# Altium schematic symbol library U_AUIPS7111S.SchLib: 1 symbol
Pins are listed as number, name and electrical type; pins without a type are passive.

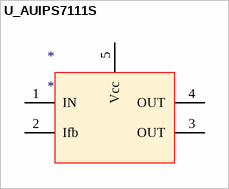
[diagram p0: symbol U_AUIPS7111S]

## U_AUIPS7111S
designator *
pins: 1 IN, 2 Ifb, 3 OUT, 4 OUT, 5 Vcc